# Altium footprint library TES3.PcbLib: 1 footprints
Each footprint in its own frame and in the unit in brackets; x right, y up, seen from the top. Pads: shape width x height; smd on the part's side, far side on the other; paste and mask are expansions set on the pad; w line width, h text height; cw(c..) or ccw(c..) is an arc to the next point about the centre after c.
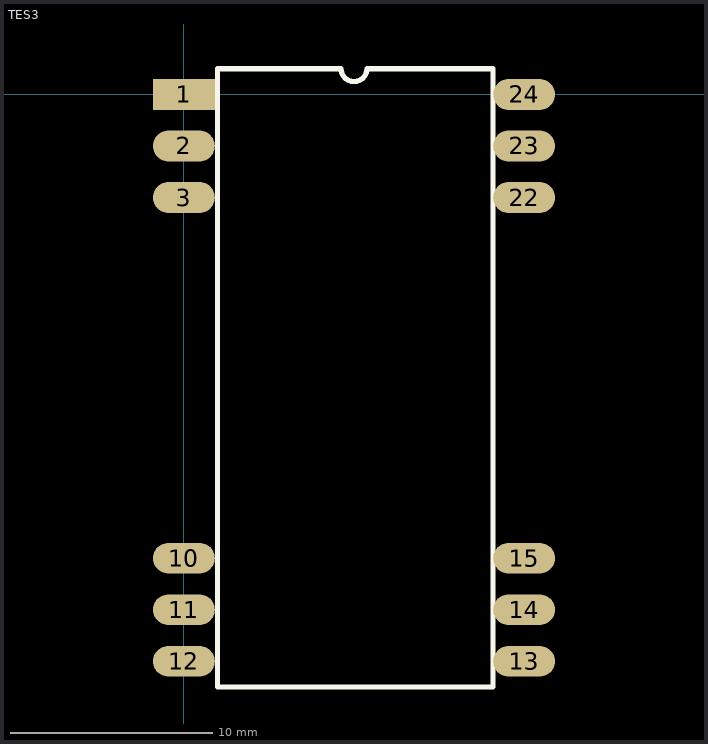
[diagram p0: the footprint, top view; thin cyan lines are the x and y axes]

## TES3 [mil]
pads (12):
  rect 120x60 smd: 1(0,0)
  oval 120x60 smd: 2(0,-100) 3(0,-200) 10(0,-900) 11(0,-1000) 12(0,-1100) 13(660,-1100) 14(660,-1000) 15(660,-900) 22(660,-200) 23(660,-100) 24(660,0)
Top Overlay:
  lines w10: 65,-1150 600,-1150 600,50 355,50 cw(c330,50) 305,50 65,50 65,-1150
3D body: height 400, standoff 0, extent 65,-1150 600,50